# Altium footprint library PPAK-5.PcbLib: 1 footprints
Each footprint in its own frame and in the unit in brackets; x right, y up, seen from the top. Pads: shape width x height; smd on the part's side, far side on the other; paste and mask are expansions set on the pad; w line width, h text height; cw(c..) or ccw(c..) is an arc to the next point about the centre after c.
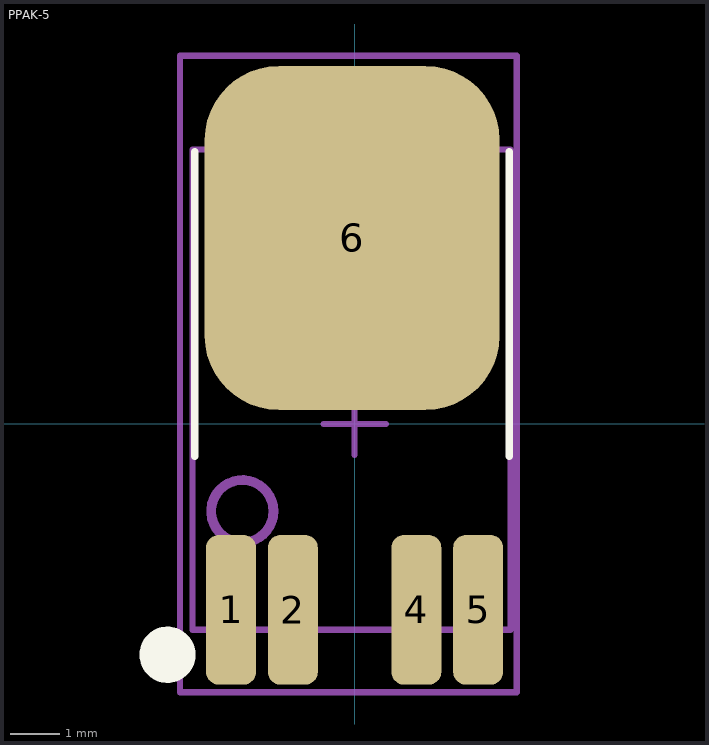
[diagram p0: the footprint, top view; thin cyan lines are the x and y axes]

## PPAK-5 [mil]
pads (5):
  rrect50% 40x120 smd: 1(-99,-149.02) 2(-49.5,-149.02) 4(49.5,-149.02) 5(99,-149.02)
  rrect50% 236.22x275.59 smd: 6(-2.02,149.02)
Top Overlay:
  circle w25: c-150,-185 r10
  lines w6: -128,-25.98 -128,218.12 ; 123.97,-25.98 123.97,218.12
Top Assembly:
  circle w7.87: c-90,-70 r25
  lines w5: -130,-165 125,-165 125,220 -130,220 -130,-165
Top Courtyard:
  lines w5: -25,0 25,0 ; 0,-25 0,25 ; -140,-215 130,-215 130,295 -135,295 -140,295 -140,-215
3D body "User Library-PPAK.step": height 90.55, standoff 0, extent -124.97,-168.97 127,212.92